# Altium footprint library Res_Adj_3296W_Bourns.PcbLib: 1 footprints
Each footprint in its own frame and in the unit in brackets; x right, y up, seen from the top. Pads: shape width x height; smd on the part's side, far side on the other; paste and mask are expansions set on the pad; w line width, h text height; cw(c..) or ccw(c..) is an arc to the next point about the centre after c.
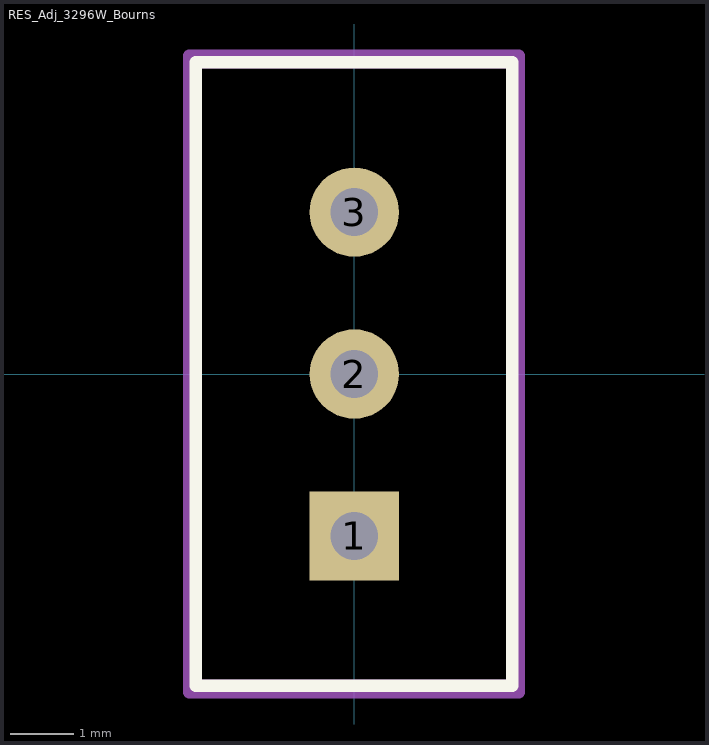
[diagram p0: the footprint, top view; thin cyan lines are the x and y axes]

## RES_Adj_3296W_Bourns [mm]
pads (3):
  rect 1.4x1.4 hole 0.75 paste-1000 mask+0: 1(0,-2.54)
  round 1.4 hole 0.75 paste-1000 mask+0: 2(0,0) 3(0,2.54)
Top Overlay:
  lines w0.2: -2.485,-4.89 -2.485,4.89 2.475,4.89 2.475,-4.89 -2.485,-4.89
Mechanical 10:
  lines w0.2: -2.585,-4.99 -2.585,4.99 2.575,4.99 2.575,-4.99 -2.585,-4.99
  text ".Designator" at -0.005,-0.001 h1
Mechanical 12:
  lines w0.2: -2.485,-4.89 -2.485,4.89 2.475,4.89 2.475,-4.89 -2.485,-4.89
Mechanical 15:
  lines w0.1: -0.505,0 0.495,0 ; -0.005,-0.5 -0.005,0.5
  lines w0.2: -2.585,-4.99 -2.585,4.99 2.575,4.99 2.575,-4.99 -2.585,-4.99
3D body "Res_Bourns_3296W-1-202LF_eec.STEP": height 0.25, standoff 0, extent -2.585,-4.99 2.575,4.99